# Altium footprint library FootPrintLib_4.PcbLib: 700 footprints (part 41 of 44)
Each footprint in its own frame and in the unit in brackets; x right, y up, seen from the top. Pads: shape width x height; smd on the part's side, far side on the other; paste and mask are expansions set on the pad; w line width, h text height; cw(c..) or ccw(c..) is an arc to the next point about the centre after c.
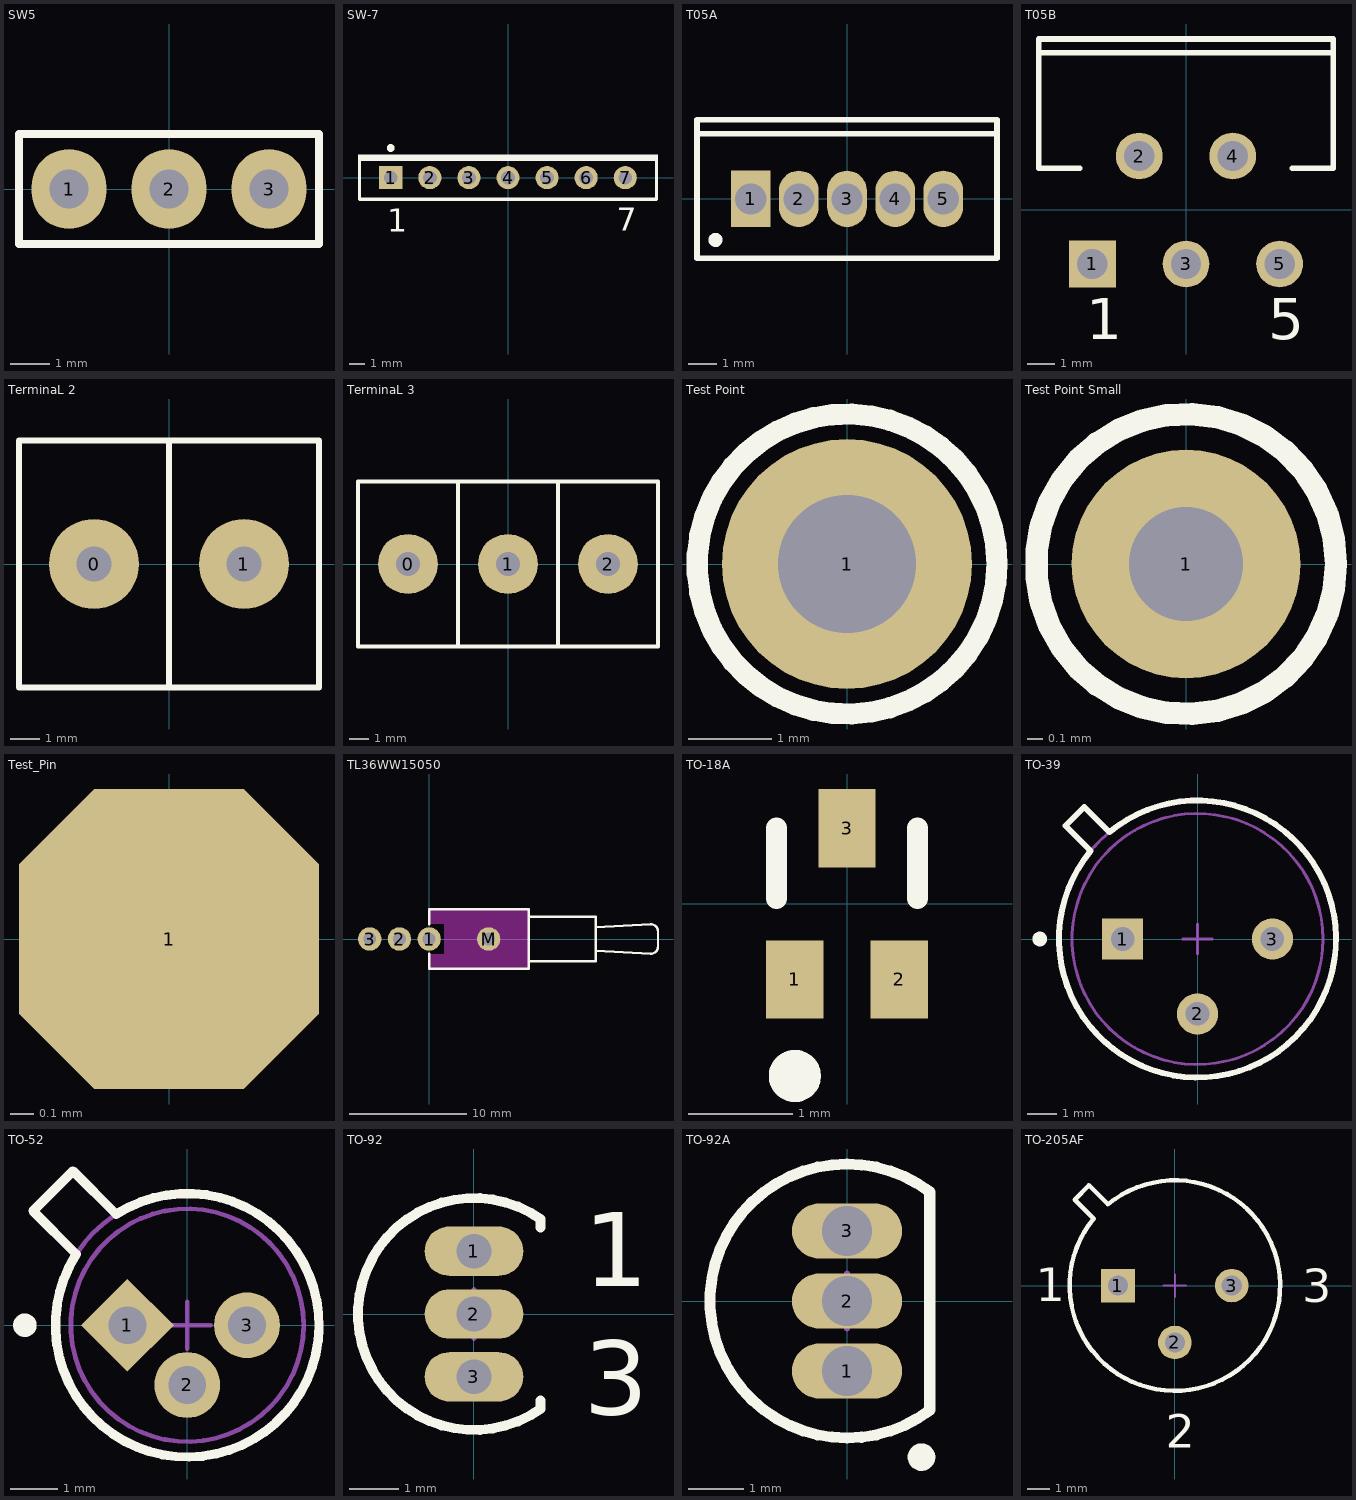
[diagram p40: the footprints below, top view; thin cyan lines are the x and y axes]

## SW5 [mm]
pads (3):
  oval 1.905x2.032 hole 1: 1(-2.54,0) 2(0,0) 3(2.54,0)
Top Overlay:
  lines w0.203: -3.81,-1.397 3.81,-1.397 3.81,1.397 -3.81,1.397 -3.81,-1.397

## SW-7 [mm] "Switch; 7 Leads"
pads (7):
  rect 1.5x1.5 hole 0.9: 1(-7.62,0)
  round 1.5 hole 0.9: 2(-5.08,0) 3(-2.54,0) 4(0,0) 5(2.54,0) 6(5.08,0) 7(7.62,0)
Top Overlay:
  circle w0.25: c-7.625,1.929 r0.125
  rectangle: -9.75,1.1 9.75,1.5
  lines w0.2: -9.65,1.4 -9.65,-1.4 9.65,-1.4 9.65,1.4
  text "1" at -7.851,-3.526 h1.5
  text "7" at 7.084,-3.445 h1.5

## T05A [mm] "TO, Thru-Hole, Vertical, Heatsink Mounted; 5 In-Line Leads; Pitch 1.70 mm"
height 15.9
pads (5):
  rect 1.4x2 hole 1.1: 1(-3.4,0)
  oval 1.4x2 hole 1.1: 2(-1.7,0) 3(0,0) 4(1.7,0) 5(3.4,0)
Top Overlay:
  circle w0.25: c-4.65,-1.45 r0.125
  lines w0.2: -5.3,2.3 5.3,2.3 ; -5.3,-2.1 5.3,-2.1 5.3,2.8 -5.3,2.8 -5.3,-2.1
Mechanical 13:
  lines w0.1: -5.3,2.3 5.3,2.3 ; -5.3,-2.1 -5.3,2.8 5.3,2.8 5.3,-2.1 -5.3,-2.1 ; -3.91,-0.28 -3.91,0.28 -2.89,0.28 -2.89,-0.28 -3.91,-0.28 ; -2.21,-0.28 -2.21,0.28 -1.19,0.28 -1.19,-0.28 -2.21,-0.28 ; -0.51,-0.28 -0.51,0.28 0.51,0.28 0.51,-0.28 -0.51,-0.28 ; 1.19,-0.28 1.19,0.28 2.21,0.28 2.21,-0.28 1.19,-0.28 ; 2.89,-0.28 2.89,0.28 3.91,0.28 3.91,-0.28 2.89,-0.28
Mechanical 15:
  lines w0.1: -0.5,0 0.5,0 ; 0,-0.5 0,0.5
3D body: height 4.1, standoff 0, extent -0.509,-0.279 0.509,0.279
3D body: height 4.1, standoff 0, extent 2.891,-0.279 3.909,0.279
3D body: height 4.1, standoff 0, extent 1.191,-0.279 2.209,0.279
3D body: height 4.1, standoff 0, extent -2.209,-0.279 -1.191,0.279
3D body: height 4.1, standoff 0, extent -3.909,-0.279 -2.891,0.279
3D body: height 13, standoff 4.1, extent -5.35,-2.15 5.35,2.85
3D body: height 15.9, standoff 13, extent -5.299,2.301 5.299,2.799

## T05B [mm] "TO, Thru-Hole, Vertical, Heatsink Mounted; 5 Bent Staggered Leads; Pitch 1.7 mm"
height 21.1
pads (5):
  rect 1.7x1.7 hole 1.1: 1(-3.4,-1.96)
  round 1.7 hole 1.1: 2(-1.7,1.96) 3(0,-1.96) 4(1.7,1.96) 5(3.4,-1.96)
Top Overlay:
  lines w0.2: -5.35,5.71 5.35,5.71 ; -3.854,1.51 -5.35,1.51 -5.35,6.21 5.35,6.21 5.35,1.51 3.854,1.51
  text "1" at -3.62,-4.685 h1.5
  text "5" at 2.98,-4.685 h1.5

## TerminaL 2 [mil]
pads (2):
  round 120 hole 47.24: 0(-100,0) 1(100,0)
Top Overlay:
  lines w8: 0,-160 0,165 ; -200,-165 200,-165 200,165 -200,165 -200,-165

## TerminaL 3 [mil]
pads (3):
  round 120 hole 47.24: 0(-200,0) 1(0,0) 2(200,0)
Top Overlay:
  lines w8: -100,-165 -100,165 ; 100,-165 100,165 ; -300,-165 300,-165 300,165 -300,165 -300,-165

## Test Point [mm]
pads (1):
  round 3 hole 1.651: 1(0,0)
Top Overlay:
  circle w0.254: c0,0 r1.8
3D body "User Library-testpoint.step": height 5.65, standoff -3.23, extent -1.587,-1.585 1.587,1.59

## Test Point Small [mil]
pads (1):
  round 60 hole 30: 1(0,0)
Top Overlay:
  circle w5.91: c0,0 r39.37
3D body "SW3DPS-TEST POINT-DEFAULT.step": height 255.91, standoff -118.11, extent -19.68,-19.69 19.69,19.69

## Test_Pin [mm]
pads (1):
  oct 1.27x1.27 smd: 1(0,0)

## TL36WW15050 [mm] "Switch; 4 Leads"
pads (4):
  round 2 hole 1.1: 1(0,0) 2(-2.54,0) 3(-5.08,0) M(5.08,0)
Top Layer keep-out:
  region: 0,-1.27 0,-2.54 1.27,-2.54 1.27,-1.27
  region: 0,2.54 0,1.27 1.27,1.27 1.27,2.54
  region: 1.27,2.54 1.27,-2.54 8.509,-2.54 8.509,2.54
Top Overlay:
  lines w0.2: 0,-1.27 0,-2.54 8.509,-2.54 8.509,2.54 0,2.54 0,1.27 ; 8.509,-1.905 14.224,-1.905 14.224,1.905 8.509,1.905 ; 14.224,-1.016 18.923,-1.27 ccw(c18.923,-0.635) 19.558,-0.635 19.558,0.635 ccw(c18.923,0.635) 18.923,1.27 14.224,1.016

## TO-18A [mm] "SC-89; 3 Flat Leads; Body 1.6 x 1.6 x 0.7 mm, inc leads (LxWxH typ)"
height 0.8
pads (3):
  rect 0.55x0.75 smd: 1(-0.5,-0.725) 2(0.5,-0.725) 3(0,0.725)
Top Overlay:
  circle w0.25: c-0.5,-1.65 r0.125
  lines w0.2: -0.676,0.05 -0.676,0.725 ; 0.675,0.05 0.675,0.725

## TO-39 [mm] "Can; 3 Leads; Pin Circle Dia. 5.08 mm; Lead Dia. 0.48 mm (max)"
height 4.55
pads (3):
  rect 1.4x1.4 hole 0.8: 1(-2.54,0)
  round 1.4 hole 0.8: 2(0,-2.54) 3(2.54,0)
Top Overlay:
  circle w0.25: c-5.35,0 r0.125
  lines w0.2: -3.626,2.99 -4.475,3.838 -3.838,4.475 -2.99,3.626 ; -3.622,2.987 ccw(c0,0) -2.987,3.622
Mechanical 13:
  circle w0.1: c0,0 r4.695
  circle w0.1: c0,0 r4.255
Mechanical 15:
  lines w0.1: -0.5,0 0.5,0 ; 0,-0.5 0,0.5
3D body: height 1.27, standoff 0, extent -4.694,-4.694 4.694,4.694
3D body: height 4.55, standoff 1.27, extent -4.254,-4.254 4.254,4.254

## TO-52 [mm] "Can; 3 Leads; Pin Circle Dia. 2.54 mm; Lead Dia. 0.48 mm (max)"
height 2.67
pads (3):
  rect 1.4x1.4 hole 0.8 rot 45: 1(-1.27,0)
  round 1.4 hole 0.8: 2(0,-1.27) 3(1.27,0)
Top Overlay:
  circle w0.25: c-3.45,0 r0.125
  lines w0.2: -3.277,2.429 -2.358,1.51 ccw(c0,0) -1.51,2.358 -2.429,3.277 -3.277,2.429
Mechanical 13:
  circle w0.1: c0,0 r2.8
  circle w0.1: c0,0 r2.475
Mechanical 15:
  lines w0.1: -0.5,0 0.5,0 ; 0,-0.5 0,0.5
3D body: height 0.76, standoff 0, extent -2.799,-2.799 2.799,2.799
3D body: height 2.67, standoff 0.76, extent -2.474,-2.474 2.474,2.474

## TO-92 [mm] "TO, Flat Index; 3 In-Line, Axial Leads; Body Dia. 4.6mm; Leads 0.41 x 0.39 mm (max)"
height 4.7
pads (3):
  oval 2x1 hole 0.7: 1(0,1.27) 2(0,0) 3(0,-1.27)
Top Overlay:
  lines w0.2: 1.35,-1.75 1.35,-1.92 cw(c0,0) 1.35,1.92 1.35,1.75
  text "1" at 2.224,0.56 h1.5
  text "3" at 2.224,-2.035 h1.5
Mechanical 15:
  lines w0.1: -0.5,0 0.5,0 ; 0,-0.5 0,0.5

## TO-92A [mm] "TO, Flat Index; 3 In-Line, Axial Leads; Body Dia. 4.5mm; Leads 0.51 x 0.48 mm (max)"
height 6.86
pads (3):
  oval 2x1 hole 0.9: 1(0,-1.27) 2(0,0) 3(0,1.27)
Top Overlay:
  circle w0.25: c1.35,-2.83 r0.125
  lines w0.2: 1.5,-1.98 cw(c0,0) 1.5,1.98 1.5,-1.98
Mechanical 13:
  lines w0.1: 1.5,-1.98 cw(c0,0) 1.5,1.98 1.5,-1.98
Mechanical 15:
  lines w0.1: -0.5,0 0.5,0 ; 0,-0.5 0,0.5
3D body: height 6.86, standoff 2.2, extent -2.485,-2.495 1.501,2.495

## TO-205AF [mm] "Can; 3 Leads; Pin Circle Dia. 5.08 mm; Lead Dia. 0.53 mm (max)"
height 4.57
pads (3):
  rect 1.5x1.5 hole 0.9: 1(-2.54,0)
  round 1.5 hole 0.9: 2(0,-2.54) 3(2.54,0)
Top Overlay:
  lines w0.2: -4.475,3.838 -3.838,4.475 -2.99,3.626 cw(c0,0) -3.626,2.99 -4.475,3.838
  text "3" at 5.694,-0.751 h1.5
  text "2" at -0.415,-7.238 h1.5
  text "1" at -6.201,-0.697 h1.5
Mechanical 15:
  lines w0.1: -0.5,0 0.5,0 ; 0,-0.5 0,0.5